# Altium schematic symbol library Schlib1.SchLib: 14 symbols
Pins are listed as number, name and electrical type; pins without a type are passive.

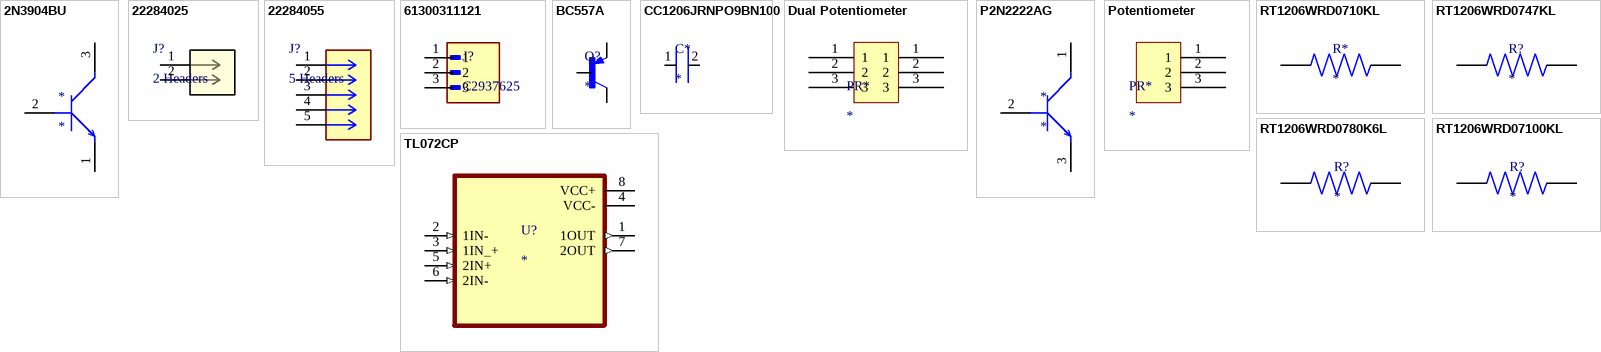
[diagram p0: symbols 2N3904BU to TL072CP]

## 2N3904BU
designator *
footprint TO92254P460H750-3
pins: 1, 2, 3

## 22284025
designator J?, comment 2 Headers
KK 254 Breakaway Header, Vertical, 2 Circuits, 0.38Âµm Gold (Au) Selective Plating, Mating Pin Length 7.49mm; Manufacturer_Name: Molex Connector Corporation; Manufacturer_Part_Number: 22284025; Copyright: Copyright (C) 2025 Ultra Librarian. All rights reserved.; RefDes: RefDes; Type: Type; LCSC: C6956150
footprint 02PIN HEADERS
pins: 1, 2

## 22284055
designator J?, comment 5 Headers
MP: 22284055; Package: None; Price: None; Value: *; Availability: Unavailable; LCSC: C6956150
footprint 05pin Headers
pins: 1, 2, 3, 4, 5

## 61300311121
designator J?, comment C2937625
MP: 61300311121; Package: None; Price: None; Availability: Unavailable; LCSC: C2937625
footprint WURTH_61300311121
pins: 1, 2, 3

## BC557A
designator Q?
BJT, TO-92, 45V, 100mA, PNP, 0.5W, 150Â°C; MF: Diotec Semiconductor; MP: BC557A; SnapEDA_Link: https://www.snapeda.com/parts/BC557A/Diotec/view-part/?ref=snap; Package: TO-92 Diotec; Value: *; Check_prices: https://www.snapeda.com/parts/BC557A/Diotec/view-part/?ref=eda
footprint TO92254P460H750-3
footprint TO92254P460H750-3
pins: 1 C, 2 B, 3 E

## CC1206JRNPO9BN100
designator C*
LCSC: C326850
footprint CAP_CC1206_YAG
pins: 1, 2

## Dual Potentiometer
designator PR*
footprint Dual Potentiometer
pins: 1, 1, 2, 2, 3, 3

## P2N2222AG
designator *
footprint TO92254P460H750-3
pins: 1, 2, 3

## Potentiometer
designator PR*
footprint Potentiometer
pins: 1, 2, 3

## RT1206WRD0710KL
designator R*
LCSC: C4193575
footprint RESC3116X65N
pins: 1, 2

## RT1206WRD0747KL
designator R?
LCSC: C4147633
footprint RESC3116X65N
pins: 1, 2

## RT1206WRD0780K6L
designator R?
Parameter 1: C4049225
footprint RESC3116X65N
pins: 1, 2

## RT1206WRD07100KL
designator R?
MP: RT1206WRD07100KL; Package: None; Price: None; LCSC: C4209492; Availability: Unavailable
footprint RESC3116X65N
footprint RESC3116X65N
pins: 1, 2

## TL072CP
designator U?
TL072CP; LCSC: C7236
footprint TL072CP
pins: 1 1OUT (out), 2 1IN- (in), 3 1IN_+ (in), 4 VCC- (power), 5 2IN+ (in), 6 2IN- (in), 7 2OUT (out), 8 VCC+ (power)